# Altium schematic symbol library B8B-XH-A.SchLib: 1 symbol
Pins are listed as number, name and electrical type; pins without a type are passive.

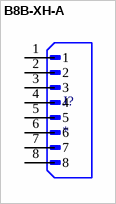
[diagram p0: symbol B8B-XH-A]

## B8B-XH-A
designator J?
Connector Header Through Hole 8 position 0.098 (2.50mm); MF: JST; MP: B8B-XH-A; SnapEDA_Link: https://www.snapeda.com/parts/B8B-XH-A/JST/view-part/?ref=snap; Package: None; Value: *; Check_prices: https://www.snapeda.com/parts/B8B-XH-A/JST/view-part/?ref=eda
footprint JST_B8B-XH-A
pins: 1, 2, 3, 4, 5, 6, 7, 8